# Altium footprint library LD1085D2T33R.PcbLib: 1 footprints
Each footprint in its own frame and in the unit in brackets; x right, y up, seen from the top. Pads: shape width x height; smd on the part's side, far side on the other; paste and mask are expansions set on the pad; w line width, h text height; cw(c..) or ccw(c..) is an arc to the next point about the centre after c.
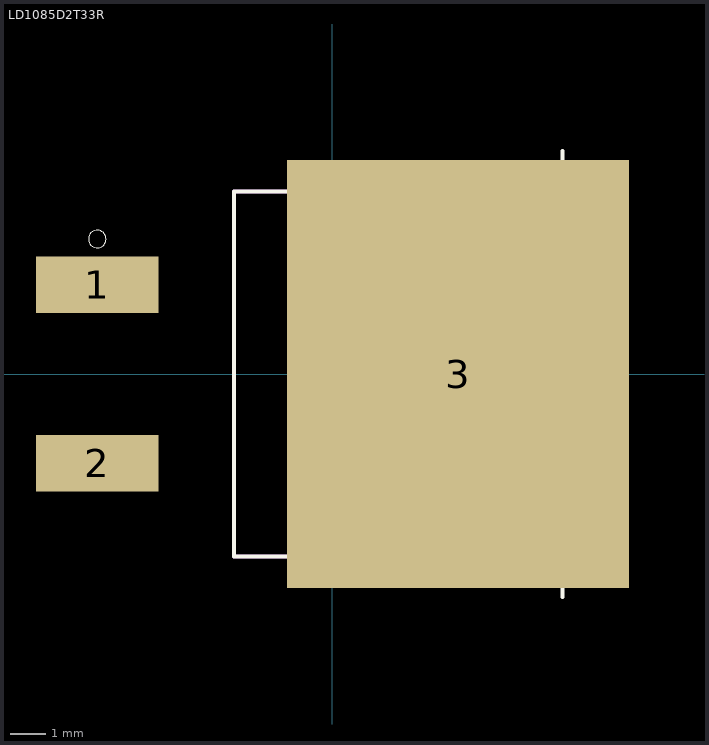
[diagram p0: the footprint, top view; thin cyan lines are the x and y axes]

## LD1085D2T33R [mm]
pads (3):
  rect 3.5x1.6 smd: 1(-6.7,2.54) 2(-6.7,-2.54)
  rect 9.75x12.2 smd: 3(3.575,0)
Top Overlay:
  circle w0: c-6.7,3.844 r0.25
  lines w0.12: 6.548,-6.354 6.548,-5.2 -2.802,-5.2 -2.802,5.2 6.548,5.2 6.548,6.354
Assembly Top:
  lines w0.12: -2.802,-5.2 -2.802,5.2 6.548,5.2 6.548,-5.2 -2.802,-5.2
3D body "step_temp.STEP": height 4.6, standoff -0.23, extent -7.712,-5.1 7.712,5.1